# EAGLE library part DSUB9 (library __MyCommonLib1)
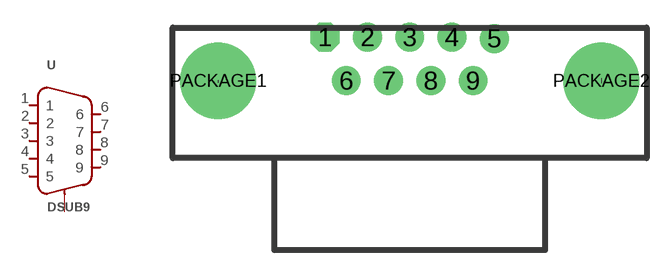
[diagram p3: symbol with the pads of DSUB9_RA_MALE; footprint DSUB9_RA_MALE]

Designator prefix -

## DSUB9_MALE  [DSUB9_RA_MALE]
1  1
2  2
3  3
4  4
5  5
6  6
7  7
8  8
9  9
PACKAGE1  PACKAGE1
PACKAGE2  PACKAGE1

## Footprint DSUB9_RA_MALE (pad centres in mm)
drill 0.9 pad 1.9 octagon: 1 -5.556,0
drill 0.9 pad 1.9: 2 -2.778,0; 3 0,0; 4 2.778,0; 5 5.556,-0.079; 6 -4.167,-2.857; 7 -1.389,-2.857; 8 1.389,-2.857; 9 4.167,-2.857
drill 3.2 pad 5: PACKAGE1 -12.581,-2.857; PACKAGE2 12.581,-2.857